# Altium schematic symbol library RT5760CHGH6F.SchLib: 1 symbol
Pins are listed as number, name and electrical type; pins without a type are passive.

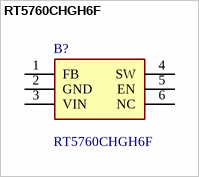
[diagram p0: symbol RT5760CHGH6F]

## RT5760CHGH6F
designator B?
Switching Voltage Regulators 6V 1A, ACOT Buck Converter in Thin SOT-563 Package; Manufacturer_Name: RICHTEK; Geometry.Height: 0.6mm; Manufacturer_Part_Number: RT5760CHGH6F; Mouser Part Number: *; Mouser Price/Stock: *; Arrow Part Number: *; Arrow Price/Stock: *; Datasheet Link: https://www.mouser.com.tr/datasheet/2/1458/DS5760ABCD_04-3104683.pdf
footprint SOTFL50P160X60-6N
pins: 1 FB, 2 GND, 3 VIN, 4 SW, 5 EN, 6 NC